# Altium integrated library SML-D12P8WT86.IntLib: 1 symbol
Pins are listed as number, name and electrical type; pins without a type are passive.

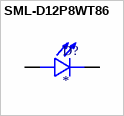
[diagram p0: symbol SML-D12P8WT86]

## SML-D12P8WT86
designator D?
Green 560nm LED Indication - Discrete 2.2V 0603 (1608 Metric); MF: Rohm; MP: SML-D12P8WT86; SnapEDA_Link: https://www.snapeda.com/parts/SML-D12P8WT86/Rohm/view-part/?ref=snap; Package: 0603 Rohm; Value: *; Check_prices: https://www.snapeda.com/parts/SML-D12P8WT86/Rohm/view-part/?ref=eda
footprint LED_SML-D12P8WT86
pins: A, C